# Altium footprint library T59EE476M050C0100.PcbLib: 3 footprints
Each footprint in its own frame and in the unit in brackets; x right, y up, seen from the top. Pads: shape width x height; smd on the part's side, far side on the other; paste and mask are expansions set on the pad; w line width, h text height; cw(c..) or ccw(c..) is an arc to the next point about the centre after c.
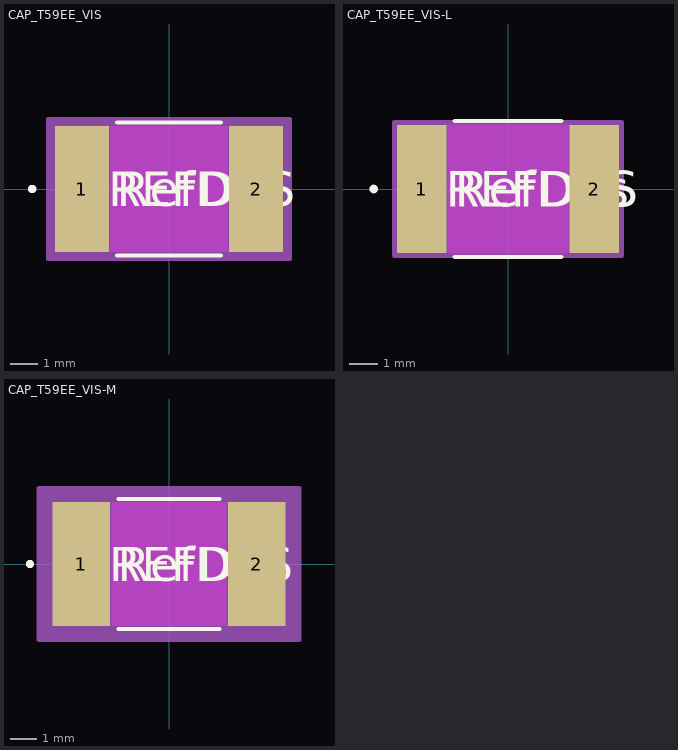
[diagram p0: the footprints below, top view; thin cyan lines are the x and y axes]

## CAP_T59EE_VIS [mil]
pads (2):
  rect 77x181 smd paste+0 mask+0: 1(-125,0) 2(125,0)
Top Layer keep-out:
  region: -84.5,-88.5 -84.5,88.5 84.5,88.5 84.5,-88.5
Top Overlay:
  circle w6: c-196.5,0 r3
  lines w6: -74.39,-95.5 74.39,-95.5 ; -74.39,95.5 74.39,95.5
  text "RefDes" at -75,-25 h50
  text "REFDES" at -87.5,-25 h50
Keep-Out Layer:
  region: -84.5,-90.5 -84.5,90.5 84.5,90.5 84.5,-90.5
Mechanical 13:
  circle w0: c-120,0 r3
  lines w1: -149.5,-90.5 -149.5,90.5 ; -149.5,-90.5 -86.5,-90.5 -86.5,90.5 -149.5,90.5 ; -149.5,-90.5 149.5,-90.5 ; -149.5,-90.5 -149.5,90.5 ; -149.5,90.5 149.5,90.5 ; 149.5,-90.5 86.5,-90.5 86.5,90.5 149.5,90.5 ; 149.5,-90.5 149.5,90.5 ; 149.5,-90.5 149.5,90.5
  text "RefDes2" at -87.5,-25 h50
Mechanical 15:
  region: 173.5,-100.5 -173.5,-100.5 -173.5,100.5 173.5,100.5
  lines w6: -173.5,-100.5 -173.5,100.5 173.5,100.5 173.5,-100.5 -173.5,-100.5
3D body "CAP_T59EE_VIS.step": height 169.02, standoff 0, extent -149.49,-90.51 149.49,90.51

## CAP_T59EE_VIS-L [mil]
pads (2):
  rect 69x179 smd paste+0 mask+0: 1(-121,0) 2(121,0)
Top Layer keep-out:
  region: -84.5,-88.5 -84.5,88.5 84.5,88.5 84.5,-88.5
Top Overlay:
  circle w6: c-188.5,0 r3
  lines w6: -74.85,-95.5 74.85,-95.5 ; -74.85,95.5 74.85,95.5
  text "RefDes" at -75,-25 h50
  text "REFDES" at -87.5,-25 h50
Keep-Out Layer:
  region: -84.5,-90.5 -84.5,90.5 84.5,90.5 84.5,-90.5
Mechanical 13:
  circle w0: c-116,0 r3
  lines w1: -149.5,-90.5 -149.5,90.5 ; -149.5,-90.5 -86.5,-90.5 -86.5,90.5 -149.5,90.5 ; -149.5,-90.5 149.5,-90.5 ; -149.5,-90.5 -149.5,90.5 ; -149.5,90.5 149.5,90.5 ; 149.5,-90.5 86.5,-90.5 86.5,90.5 149.5,90.5 ; 149.5,-90.5 149.5,90.5 ; 149.5,-90.5 149.5,90.5
  text "RefDes2" at -87.5,-25 h50
Mechanical 15:
  region: 159.5,-93.5 -159.5,-93.5 -159.5,93.5 159.5,93.5
  lines w6: -159.5,-93.5 -159.5,93.5 159.5,93.5 159.5,-93.5 -159.5,-93.5
3D body "CAP_T59EE_VIS.step": height 169.02, standoff 0, extent -149.49,-90.51 149.49,90.51

## CAP_T59EE_VIS-M [mil]
pads (2):
  rect 85x183 smd paste+0 mask+0: 1(-129,0) 2(129,0)
Top Layer keep-out:
  region: -84.5,-88.5 -84.5,88.5 84.5,88.5 84.5,-88.5
Top Overlay:
  circle w6: c-204.5,0 r3
  lines w6: -74.03,-95.5 74.03,-95.5 ; -74.03,95.5 74.03,95.5
  text "RefDes" at -75,-25 h50
  text "REFDES" at -87.5,-25 h50
Keep-Out Layer:
  region: -84.5,-90.5 -84.5,90.5 84.5,90.5 84.5,-90.5
Mechanical 13:
  circle w0: c-124,0 r3
  lines w1: -149.5,-90.5 -149.5,90.5 ; -149.5,-90.5 -86.5,-90.5 -86.5,90.5 -149.5,90.5 ; -149.5,-90.5 149.5,-90.5 ; -149.5,-90.5 -149.5,90.5 ; -149.5,90.5 149.5,90.5 ; 149.5,-90.5 86.5,-90.5 86.5,90.5 149.5,90.5 ; 149.5,-90.5 149.5,90.5 ; 149.5,-90.5 149.5,90.5
  text "RefDes2" at -87.5,-25 h50
Mechanical 15:
  region: 191.5,-111.5 -191.5,-111.5 -191.5,111.5 191.5,111.5
  lines w6: -191.5,-111.5 -191.5,111.5 191.5,111.5 191.5,-111.5 -191.5,-111.5
3D body "CAP_T59EE_VIS.step": height 169.02, standoff 0, extent -149.49,-90.51 149.49,90.51